# Altium footprint library 2.2 K.PcbLib: 1 footprints
Each footprint in its own frame and in the unit in brackets; x right, y up, seen from the top. Pads: shape width x height; smd on the part's side, far side on the other; paste and mask are expansions set on the pad; w line width, h text height; cw(c..) or ccw(c..) is an arc to the next point about the centre after c.
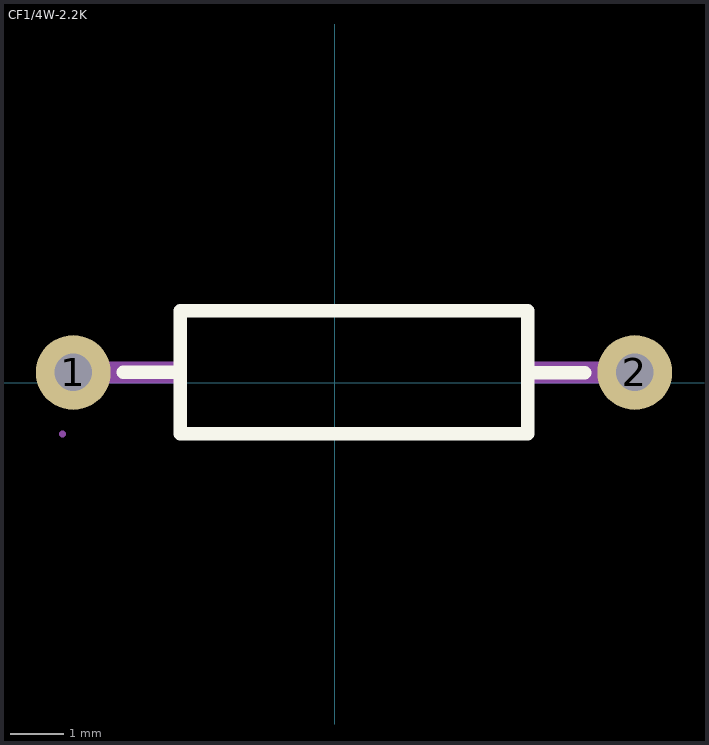
[diagram p0: the footprint, top view; thin cyan lines are the x and y axes]

## CF1/4W-2.2K [mm]
pads (2):
  round 1.4 hole 0.7 paste-2539.97 mask+0.051: 1(-4.888,0.194) 2(5.612,0.194)
Top Overlay:
  lines w0.254: -3.957,0.194 -2.888,0.194 ; 3.612,-0.956 -2.888,-0.956 -2.888,1.344 3.612,1.344 ; 3.612,-0.926 3.612,1.314 ; 3.612,0.19 4.681,0.19
Mechanical 15:
  region: -5.028,-0.956 -5.029,-0.932 -5.064,-0.898 -5.112,-0.898 -5.147,-0.932 -5.148,-0.956 -5.147,-0.98 -5.112,-1.014 -5.064,-1.014 -5.029,-0.98 -5.028,-0.956
  region: -4.688,0.194 -4.688,0.234 -4.718,0.307 -4.775,0.364 -4.848,0.394 -4.928,0.394 -5.001,0.364 -5.058,0.307 -5.088,0.234 -5.088,0.194 -5.088,0.154 -5.058,0.081 -5.001,0.024 -4.928,-0.006 -4.848,-0.006 -4.775,0.024 -4.718,0.081 -4.688,0.154 -4.688,0.194
  region: 5.812,0.194 5.812,0.234 5.781,0.307 5.725,0.364 5.652,0.394 5.572,0.394 5.498,0.364 5.442,0.307 5.412,0.234 5.412,0.194 5.412,0.154 5.442,0.081 5.498,0.024 5.572,-0.006 5.652,-0.006 5.725,0.024 5.781,0.081 5.812,0.154 5.812,0.194
  region: -5.088,-0.006 -5.088,0.394 -2.878,0.394 -2.878,-0.006
  region: 5.812,0.394 5.812,-0.006 3.602,-0.006 3.602,0.394
  lines w0.051: -2.888,-0.956 3.612,-0.956 3.612,1.344 -2.888,1.344 -2.888,-0.956